# Altium footprint library Resistor.PcbLib: 7 footprints
Each footprint in its own frame and in the unit in brackets; x right, y up, seen from the top. Pads: shape width x height; smd on the part's side, far side on the other; paste and mask are expansions set on the pad; w line width, h text height; cw(c..) or ccw(c..) is an arc to the next point about the centre after c.
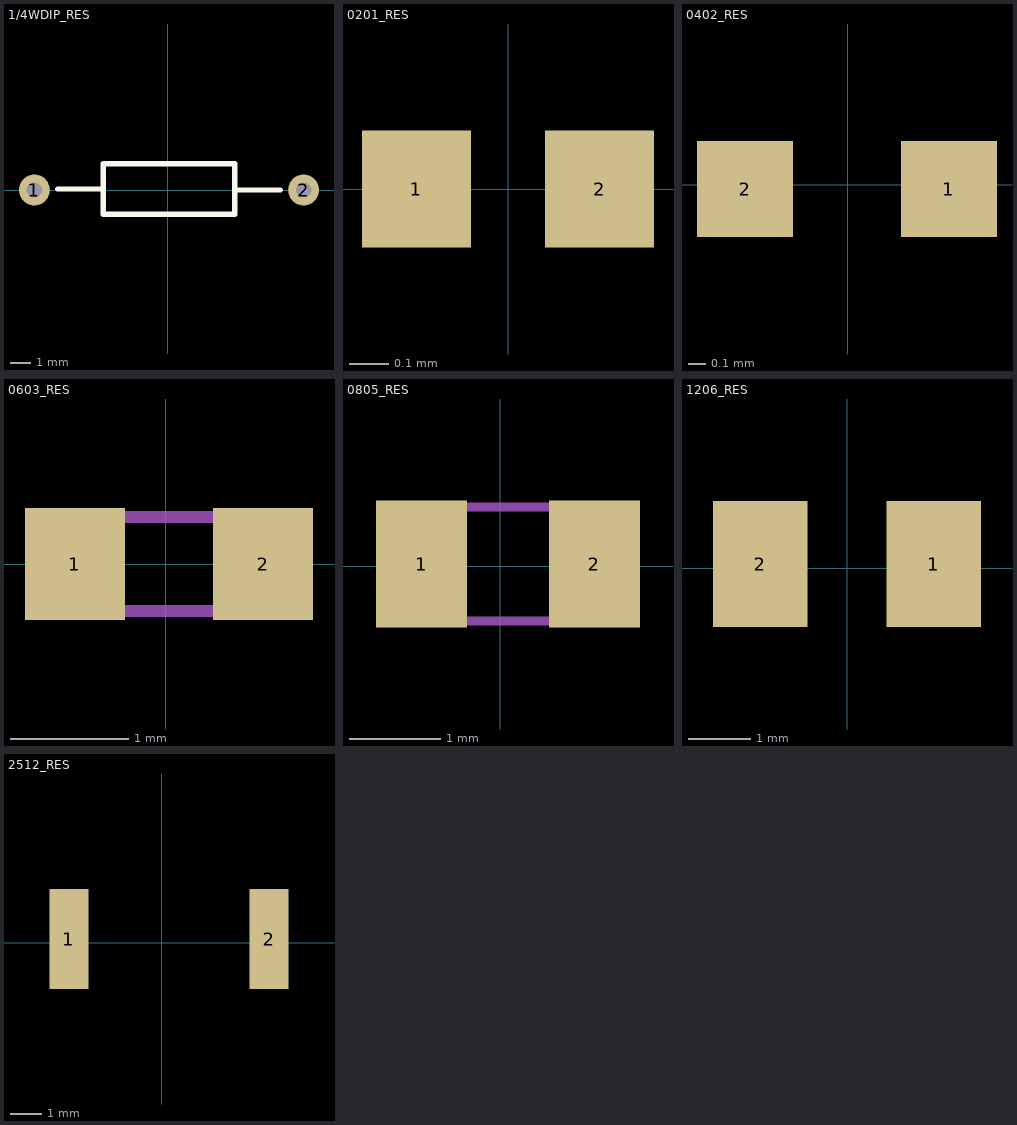
[diagram p0: the footprints below, top view; thin cyan lines are the x and y axes]

## 1/4WDIP_RES [mil]
pads (2):
  round 60 hole 30: 1(-259.84,0) 2(263.78,0)
Top Overlay:
  lines w10: -214.57,1.97 -125.98,1.97 ; 130.49,0.3 219.07,0.3 ; 129.92,51.18 -125.98,51.18 -125.98,-47.24 129.92,-47.24 129.92,51.18 ; 129.92,51.18 129.92,51.18

## 0201_RES [mm]
pads (2):
  rect 0.28x0.3 smd: 1(-0.235,0) 2(0.235,0)
3D body "User Library-0201(0603M) Res.step": height 0.31, standoff 0, extent -0.308,-0.138 0.302,0.167

## 0402_RES [mm]
pads (2):
  rect 0.55x0.55 smd: 1(0.58,-0.025) 2(-0.588,-0.025)
3D body "resistor0402.step": height 0.41, standoff 0, extent -0.579,-0.3 0.571,0.25

## 0603_RES [mm]
pads (2):
  rect 0.85x0.95 smd: 1(-0.773,0) 2(0.827,0)
Mechanical 13:
  lines w0.1: -0.773,-0.4 0.827,-0.4 0.827,0.4 -0.773,0.4 -0.773,-0.4
3D body "MCMR06X2702FTL.stp": height 0.55, standoff 0, extent -0.773,-0.4 0.827,0.4

## 0805_RES [mm]
pads (2):
  rect 1x1.4 smd: 1(-0.862,0.024) 2(1.038,0.024)
Mechanical 13:
  lines w0.1: -0.912,-0.601 -0.912,0.649 1.088,0.649 1.088,-0.601 -0.912,-0.601
3D body "MCSR08X3302FTL.stp": height 0.65, standoff 0, extent -0.912,-0.601 1.088,0.649

## 1206_RES [mil]
pads (2):
  rect 60x80 smd: 1(54.85,2.62) 2(-55.15,2.62)
3D body "User Library-RES_3216-1206.step": height 33.46, standoff 0, extent -66.09,-31.43 65.8,36.67

## 2512_RES [mil]
pads (2):
  rect 49x125 smd: 1(-116.72,4.84) 2(134.28,4.84)
3D body "resistor 2512.step": height 63.07, standoff 0, extent -116.21,-54.21 133.78,63.9